# Altium schematic symbol library KA78M05RTM.SchLib: 1 symbol
Pins are listed as number, name and electrical type; pins without a type are passive.

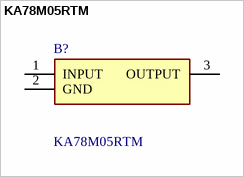
[diagram p0: symbol KA78M05RTM]

## KA78M05RTM
designator B?
IC REG LINEAR 5V 500MA DPAK; Manufacturer_Name: onsemi; Geometry.Height: 2.527mm; Manufacturer_Part_Number: KA78M05RTM; Mouser Part Number: 512-KA78M05RTM; Mouser Price/Stock: https://www.mouser.co.uk/ProductDetail/onsemi-Fairchild/KA78M05RTM?qs=SpPkH8nd0tby1gymq1mGIg%3D%3D; Arrow Part Number: KA78M05RTM; Arrow Price/Stock: https://www.arrow.com/en/products/ka78m05rtm/on-semiconductor; Datasheet Link: https://componentsearchengine.com/Datasheets/1/KA78M05RTM.pdf
footprint KA78M05RTM
pins: 1 INPUT, 2 GND, 3 OUTPUT